# Altium schematic symbol library EEEFK0J102AV.SchLib: 1 symbol
Pins are listed as number, name and electrical type; pins without a type are passive.

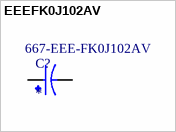
[diagram p0: symbol EEEFK0J102AV]

## EEEFK0J102AV
designator C?  Supplier Part Number 1: 667-EEE-FK0J102AV
CAP ALUM 1000UF 20% 6.3V SMD; MF: Panasonic; MP: EEEFK0J102AV; Package: RADIAL-2 Panasonic; Purchase-URL: https://pricing.snapeda.com/search/part/EEEFK0J102AV/?ref=eda; Check_prices: https://www.snapeda.com/parts/EEEFK0J102AV/Panasonic/view-part/5793315/?ref=eda; Value: *; Price: None; Availability: In Stock; SnapEDA_Link: https://www.snapeda.com/parts/EEEFK0J102AV/Panasonic/view-part/5793315/?ref=snap; Supplier 1: Mouser
footprint CAP_EEEFK0J102AV
pins: 1, 2